# EAGLE library part MCP16312-E/* (library power)
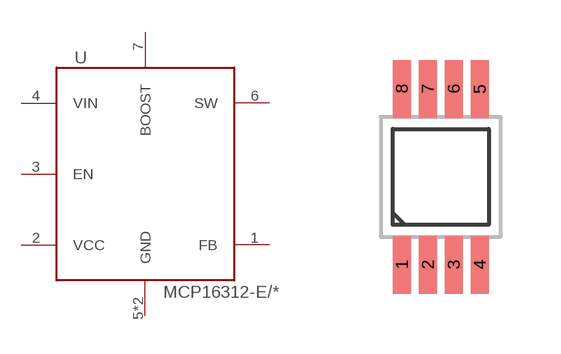
[diagram p2: symbol with the pads of MSOP-8; footprint MSOP-8]

Designator prefix U

## MCP16312-E/MS  [MSOP-8]
1  FB
2  VCC
3  EN
4  VIN
5  GND
6  SW
7  BOOST
8  GND

## Footprint MSOP-8 (pad centres in mm)
smd 0.45 x 1.45: 1 -0.975,-2.2; 2 -0.325,-2.2; 3 0.325,-2.2; 4 0.975,-2.2; 5 0.975,2.2; 6 0.325,2.2; 7 -0.325,2.2; 8 -0.975,2.2